# EAGLE library part 690367282676 (library Eagle_BOARD-TO-BOARD_CONNECTORS (rev18b))
WR-MM Female SMT Connector with Polarization, 26 Pins=>Code : Con_BTB_MM_Female_SMT_690367282676 <http://katalog.we-online.de/media/thumbs2/eican/thb_Con_BTB_MM_Female_SMT_69036728xx76_pf2.jpg> Details see: http://katalog.we-online.de/en/em/6903_6728_xx_76 Created 2014-06-04, Karrer Zheng 2014 (C) Würth Elektronik
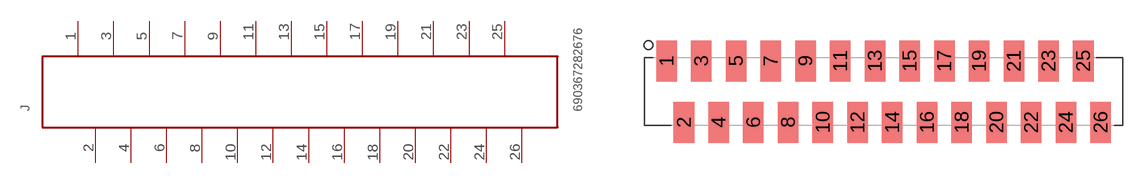
[diagram p359: symbol with the pads of 690367282676; footprint 690367282676]

Designator prefix J

## 690367282676  [690367282676]
1  26  pas
2  25  pas
3  24  pas
4  23  pas
5  22  pas
6  21  pas
7  20  pas
8  19  pas
9  18  pas
10  17  pas
11  16  pas
12  15  pas
13  14  pas
14  13  pas
15  12  pas
16  11  pas
17  10  pas
18  9  pas
19  8  pas
20  7  pas
21  6  pas
22  5  pas
23  4  pas
24  3  pas
25  2  pas
26  1  pas

## Footprint 690367282676 (pad centres in mm)
WR-MM Female SMT Connector with Polarization, 26 pins
smd 1.5 x 3: 1 -15.875,2.25; 2 -14.605,-2.25; 3 -13.335,2.25; 4 -12.065,-2.25; 5 -10.795,2.25; 6 -9.525,-2.25; 7 -8.255,2.25; 8 -6.985,-2.25; 9 -5.715,2.25; 10 -4.445,-2.25; 11 -3.175,2.25; 12 -1.905,-2.25; 13 -0.635,2.25; 14 0.635,-2.25; 15 1.905,2.25; 16 3.175,-2.25; 17 4.445,2.25; 18 5.715,-2.25; 19 6.985,2.25; 20 8.255,-2.25; 21 9.525,2.25; 22 10.795,-2.25; 23 12.065,2.25; 24 13.335,-2.25; 25 14.605,2.25; 26 15.875,-2.25